# EAGLE library part 1-1825010-8 (library Switches)
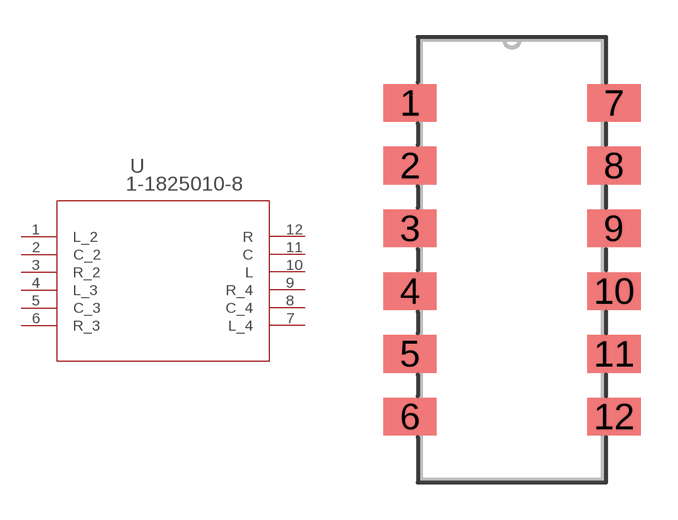
[diagram p40: symbol with the pads of SW12-SO325X700H175_SMT; footprint SW12-SO325X700H175_SMT]

Designator prefix U

## 1-1825010-8 (BUILT_BY: EMA_UL_Team; CATEGORY: Slide Switches; COPYRIGHT: Copyright (C) 2016 Accelerated Designs. All rights reserved; DESCRIPTION: ASE42L04=4PDT AUTOSLIDE; MANUFACTURER_PART_NUMBER: 1-1825010-8; PART_STATUS: active; SERIES: Alcoswitch ASE/F; VENDOR: TE Connectivity)  [SW12-SO325X700H175_SMT]
1  L_2  pas
2  C_2  pas
3  R_2  pas
4  L_3  pas
5  C_3  pas
6  R_3  pas
7  L_4  pas
8  C_4  pas
9  R_4  pas
10  L  pas
11  C  pas
12  R  pas

## Footprint SW12-SO325X700H175_SMT (pad centres in mm)
smd 2.159 x 1.524: 1 -4.128,6.35; 2 -4.128,3.81; 3 -4.128,1.27; 4 -4.128,-1.27; 5 -4.128,-3.81; 6 -4.128,-6.35; 7 4.128,6.35; 8 4.128,3.81; 9 4.128,1.27; 10 4.128,-1.27; 11 4.128,-3.81; 12 4.128,-6.35